# EAGLE library part R5402N (library 00_koarl-div)
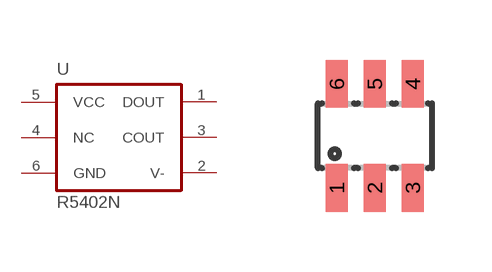
[diagram p10: symbol with the pads of SOT23-6L; footprint SOT23-6L]

Designator prefix -

## R5402N  [SOT23-6L]
1  DOUT  out
2  V-  pwr
3  COUT  out
4  NC  pas
5  VCC  pwr
6  GND  pwr

## Footprint SOT23-6L (pad centres in mm)
Small Outline Transistor
smd 0.55 x 1.2: 1 -0.95,-1.3; 2 0,-1.3; 3 0.95,-1.3; 4 0.95,1.3; 5 0,1.3; 6 -0.95,1.3